# Altium footprint library MJ54&78_Main_V1.3.PcbLib: 53 footprints (part 1 of 4)
Each footprint in its own frame and in the unit in brackets; x right, y up, seen from the top. Pads: shape width x height; smd on the part's side, far side on the other; paste and mask are expansions set on the pad; w line width, h text height; cw(c..) or ccw(c..) is an arc to the next point about the centre after c.
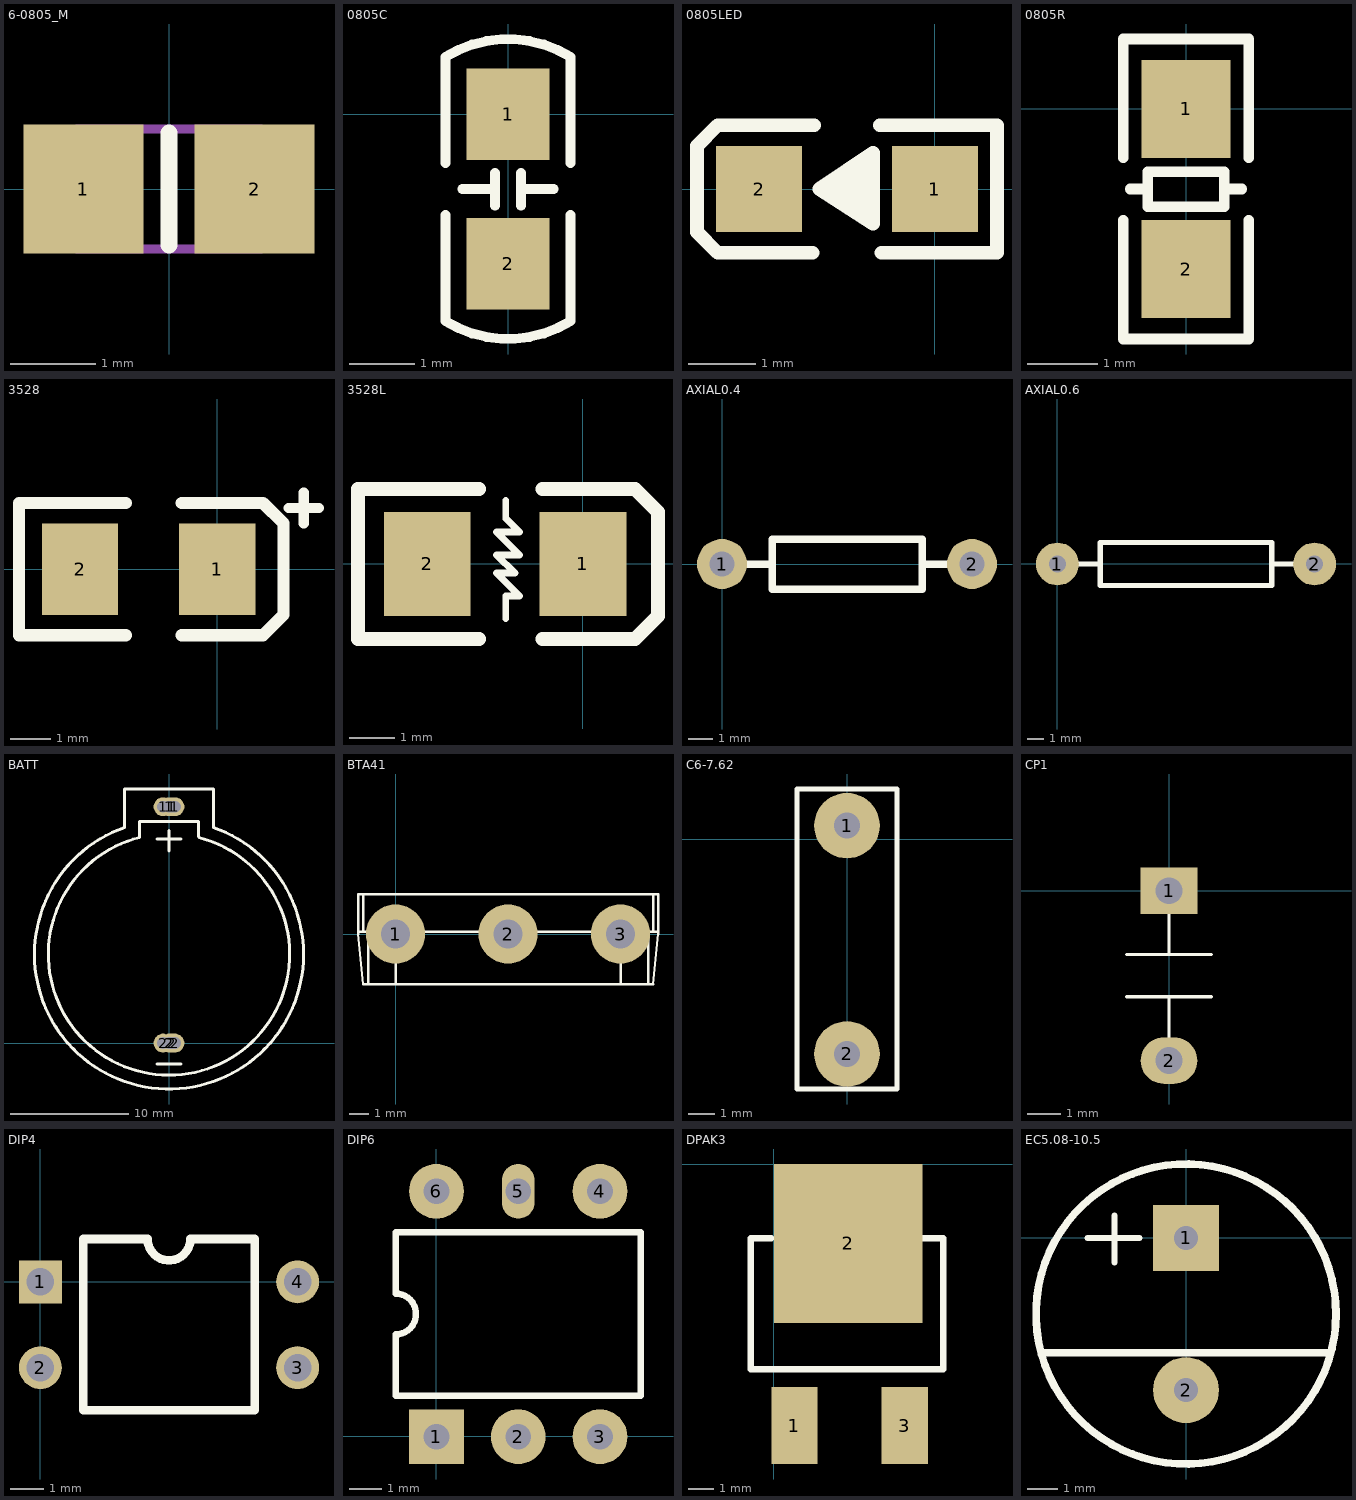
[diagram p0: the footprints below, top view; thin cyan lines are the x and y axes]

## 6-0805_M [mm]
height 0.7
pads (2):
  rect 1.4x1.5 smd: 1(-1,0) 2(1,0)
Top Overlay:
  lines w0.2: 0,-0.65 0,0.65
Mechanical 13:
  lines w0.1: -1.075,-0.7 1.075,-0.7 1.075,0.7 -1.075,0.7 -1.075,-0.7
Mechanical 15:
  lines w0.1: 0,-0.5 0,0.5

## 0805C [mm]
pads (2):
  rect 1.27x1.4 smd: 1(0,0) 2(0,-2.286)
Top Overlay:
  lines w0.15: -0.954,-1.54 -0.954,-3.162 ccw(c0,-1.636) 0.954,-3.162 0.954,-1.54 ; -0.954,-0.746 -0.954,0.876 cw(c0,-0.65) 0.954,0.876 0.954,-0.746 ; -0.7,-1.143 -0.2,-1.143 ; -0.2,-1.4 -0.2,-0.9 ; 0.2,-1.4 0.2,-0.9 ; 0.2,-1.143 0.7,-1.143

## 0805LED [mil]
pads (2):
  rect 50x50 smd: 1(0,0) 2(-102,0)
Top Overlay:
  lines w8: -71,-37 -126,-37 -138,-25 -138,25 -126,37 -70,37 ; -36,-11 -47,-6 ; -36,10 -48,10 ; -32,37 36,37 36,-37 -31,-37 ; -48,10 -36,-4 -47,-6 ; -48,10 -47,-6 ; -48,10 -57,2 -47,-6 ; -47,-6 -36,21 ; -36,21 -67,0 -36,-20 -36,21

## 0805R [mm]
pads (2):
  rect 1.27x1.4 smd: 1(0,0) 2(0,-2.286)
Top Overlay:
  lines w0.15: -0.9,-1.586 -0.9,-3.286 0.9,-3.286 0.9,-1.586 ; -0.9,-0.7 -0.9,1 0.9,1 0.9,-0.7 ; -0.8,-1.143 -0.55,-1.143 ; 0.55,-1.143 0.8,-1.143 ; -0.55,-1.4 0.55,-1.4 0.55,-0.9 -0.55,-0.9 -0.55,-1.4

## 3528 [mil]
pads (2):
  rect 75x90 smd: 1(0,0) 2(-135,0)
Top Overlay:
  lines w10: 70,60 75,60 100,60 ; 85,45 85,75
  lines w12: -90,-65 -195,-65 -195,65 -90,65 ; -35,-65 45,-65 65,-45 65,45 45,65 -35,65

## 3528L [mil]
pads (2):
  rect 75x90 smd: 1(0,0) 2(-135,0)
Top Overlay:
  lines w6: -66.93,-47.24 -66.93,-27.56 -55.12,-27.56 -74.8,-7.87 -59.05,-7.87 -74.8,7.87 -55.12,7.87 -74.8,27.56 -55.12,27.56 -66.93,39.37 -66.93,55.12
  lines w12: -90,-65 -195,-65 -195,65 -90,65 ; -35,-65 45,-65 65,-45 65,45 45,65 -35,65

## AXIAL0.4 [mil]
pads (2):
  round 80 hole 40: 1(0,0) 2(400,0)
Top Overlay:
  lines w12: 0,0 80,0 ; 320,0 400,0 ; 80,-40 80,40 320,40 320,-40 80,-40

## AXIAL0.6 [mil]
pads (2):
  round 100 hole 40: 1(0.24,-0.44) 2(600.24,-0.44)
Top Overlay:
  lines w12: 40.24,-0.44 100.24,-0.44 ; 500.24,-0.44 560.24,-0.44 ; 100.24,-50.44 500.24,-50.44 500.24,49.56 100.24,49.56 100.24,-50.44

## BATT [mm]
pads (9):
  round 1.6 hole 1: 1(-0.5,20) 1(0,20) 1(0.25,20) 1(0.5,20) 2(-0.5,0) 2(0,0) 2(0,0) 2(0.25,0) 2(0.5,0)
Top Overlay:
  lines w0.254: -2.5,18.25 -2.5,17.4 ; -1,-1.75 1,-1.75 ; -1,17.25 1,17.25 ; 0,16.25 0,18 ; 2.5,17.5 2.5,18.75 -2.5,18.75 -2.5,17.4 ; 2.536,17.391 cw(c0,7.5) -2.5,17.4 ; -3.75,18.25 ccw(c0,7.5) 3.75,18.25 3.75,20.5 3.75,21.5 -3.75,21.5 -3.75,20.5 -3.75,18.25

## BTA41 [mm]
pads (3):
  round 3 hole 1.45: 1(0,0) 2(5.715,0) 3(11.43,0)
Top Overlay:
  lines w0.127: -1.905,0.127 13.335,0.127 ; -1.651,0.127 -1.651,2.032 ; -1.397,-2.54 -1.397,-2.413 -1.397,0.127 ; 0,-2.54 0,0 ; 0,-0.635 0,0.127 ; 11.43,-2.54 11.43,0.127 ; 12.827,-2.54 12.827,0.127 ; 13.081,0.127 13.081,2.032 ; -1.905,0 -1.905,2.032 13.335,2.032 13.335,0 13.081,-2.54 -1.651,-2.54 -1.905,0

## C6-7.62 [mm]
pads (2):
  round 2.5 hole 1: 1(0,0.51) 2(0,-8.19)
Top Overlay:
  lines w0.203: -1.905,-9.525 1.905,-9.525 1.905,1.905 -1.905,1.905 -1.905,-9.525

## CP1 [mm]
pads (2):
  rect 1.7x1.397 hole 0.8: 1(0,0)
  oval 1.7x1.397 hole 0.8: 2(0,-5.08)
Top Overlay:
  lines w0.102: -1.27,-3.175 1.27,-3.175 ; -1.27,-1.905 1.27,-1.905 ; 0,-5.08 0,-3.175 ; 0,-1.905 0,0

## DIP4 [mil]
pads (4):
  rect 50x50 hole 32: 1(0,0)
  round 50 hole 32: 2(0,-100) 3(300,-100) 4(300,0)
Top Overlay:
  lines w10: 50,-150 250,-150 250,50 175,50 cw(c150,50) 125,50 50,50 50,-150

## DIP6 [mm]
pads (6):
  rect 1.7x1.7 hole 0.8: 1(0.009,-0.006)
  round 1.7 hole 0.8: 2(2.549,-0.006) 3(5.089,-0.006) 4(5.089,7.614) 6(0.009,7.614)
  oval 1.016x1.7 hole 0.8: 5(2.549,7.614)
Top Overlay:
  lines w0.2: -1.261,1.264 -1.261,3.169 ccw(c-1.261,3.804) -1.261,4.439 -1.261,6.344 6.359,6.344 6.359,1.264 -1.261,1.264

## DPAK3 [mm]
pads (3):
  rect 1.8x3 smd: 1(0.8,-10.2) 3(5.1,-10.2)
  rect 5.8x6.2 smd: 2(2.9,-3.1)
Top Overlay:
  lines w0.254: -0.1,-2.9 -0.9,-2.9 -0.9,-8 6.6,-8 6.6,-2.9 5.8,-2.9

## EC5.08-10.5 [mm]
pads (2):
  rect 2.2x2.2 hole 0.8: 1(0,0)
  round 2.2 hole 0.8: 2(0,-5.08)
Top Overlay:
  circle w0.254: c0,-2.54 r5.004
  lines w0.203: -3.277,0 -1.549,0 ; -2.388,-0.813 -2.388,0.737
  lines w0.254: -4.775,-3.835 4.775,-3.835